# EAGLE library part SX70-7-PAD-HOLES-PROPER (library _openSX70)
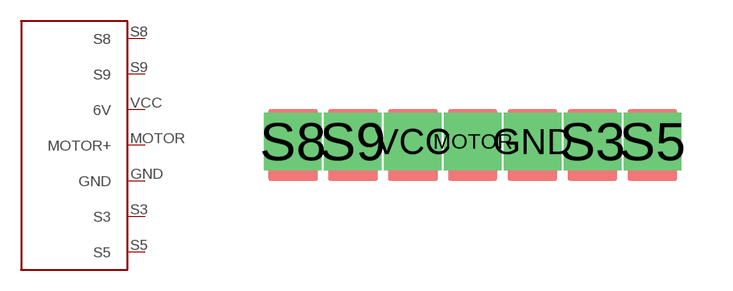
[diagram p11: symbol with the pads of SX70-7-PAD-HOLES-PROPER; footprint SX70-7-PAD-HOLES-PROPER]

Designator prefix -

## SX70-7-PAD-HOLES-PROPER  [SX70-7-PAD-HOLES-PROPER]
GND  GND
MOTOR  MOTOR+
S3  S3
S5  S5
S8  S8
S9  S9
VCC  6V

## Footprint SX70-7-PAD-HOLES-PROPER (pad centres in mm)
drill 1.118 pad 1.422 square: GND 7.875,1.531; MOTOR 6.125,1.531; S3 9.625,1.531; S5 11.375,1.531; S8 0.875,1.531; S9 2.625,1.531; VCC 4.375,1.531